# Altium schematic symbol library Modules.SchLib: 2 symbols
Pins are listed as number, name and electrical type; pins without a type are passive.

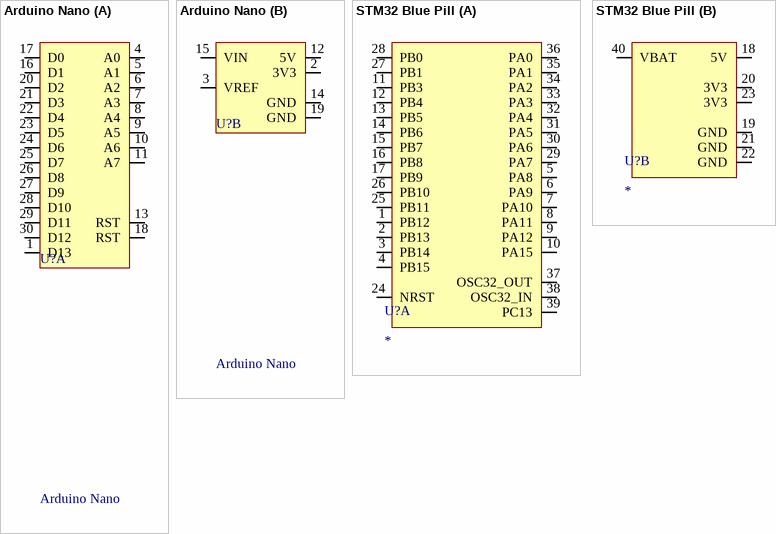
[diagram p0: symbols Arduino Nano to STM32 Blue Pill]

## Arduino Nano
designator U?
Supplier 1: Digi-Key; Supplier 2: Farnell; Supplier 3: Mouser; Supplier Part Number 1: 1050-1001-ND; Supplier Part Number 2: 1848691; Supplier Part Number 3: 782-A000005
part A pins: 1 D13, 4 A0, 5 A1, 6 A2, 7 A3, 8 A4, 9 A5, 10 A6, 11 A7, 13 RST, 16 D1, 17 D0, 18 RST, 20 D2, 21 D3, 22 D4, 23 D5, 24 D6, 25 D7, 26 D8, 27 D9, 28 D10, 29 D11, 30 D12
part B pins: 2 3V3, 3 VREF, 12 5V, 14 GND, 15 VIN, 19 GND

## STM32 Blue Pill
designator U?
part A pins: 1 PB12, 2 PB13, 3 PB14, 4 PB15, 5 PA8, 6 PA9, 7 PA10, 8 PA11, 9 PA12, 10 PA15, 11 PB3, 12 PB4, 13 PB5, 14 PB6, 15 PB7, 16 PB8, 17 PB9, 24 NRST, 25 PB11, 26 PB10, 27 PB1, 28 PB0, 29 PA7, 30 PA6, 31 PA5, 32 PA4, 33 PA3, 34 PA2, 35 PA1, 36 PA0, 37 OSC32_OUT, 38 OSC32_IN, 39 PC13
part B pins: 18 5V, 19 GND, 20 3V3, 21 GND, 22 GND, 23 3V3, 40 VBAT